# EAGLE library part CNHDR036M3-1/1X6B (library Traficon)
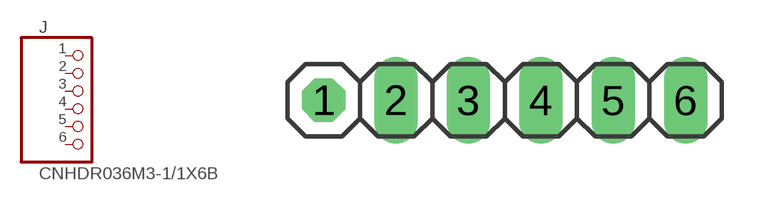
[diagram p176: symbol with the pads of 1X06B; footprint 1X06B]

Designator prefix J

## CNHDR036M3-1/1X6B  [1X06B]
1  TMS  pas
2  TDI  pas
3  TDO  pas
4  TCK  pas
5  GND  pas
6  VCC  pas

## Footprint 1X06B (pad centres in mm)
drill 1.016 octagon: 1 -6.35,0
drill 1.016 long: 2 -3.81,0; 3 -1.27,0; 4 1.27,0; 5 3.81,0; 6 6.35,0